# Altium footprint library Seeed-OPL-Connector.PCBLIB: 183 footprints (part 7 of 12)
Each footprint in its own frame and in the unit in brackets; x right, y up, seen from the top. Pads: shape width x height; smd on the part's side, far side on the other; paste and mask are expansions set on the pad; w line width, h text height; cw(c..) or ccw(c..) is an arc to the next point about the centre after c.
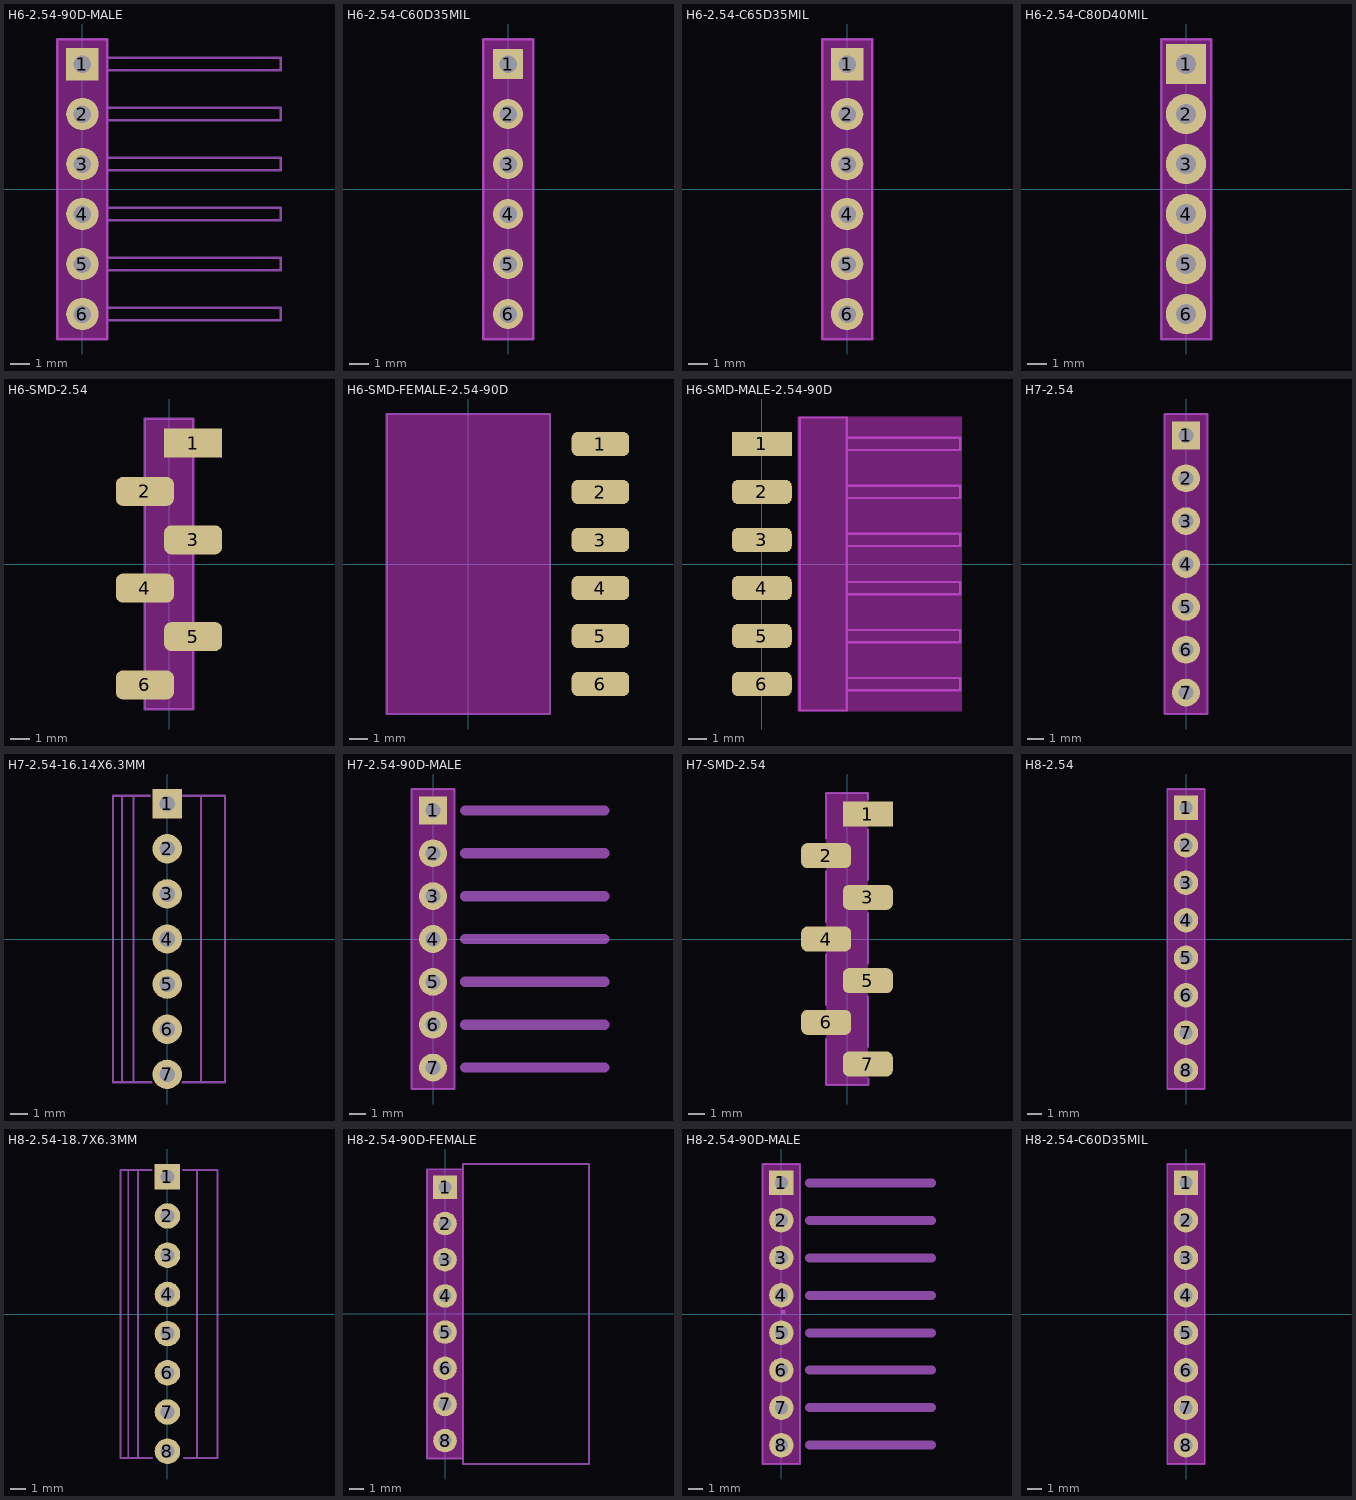
[diagram p6: the footprints below, top view; thin cyan lines are the x and y axes]

## H6-2.54-90D-MALE [mil]
pads (6):
  rect 65x65 hole 35: 1(0,250)
  round 65 hole 35: 2(0,150) 3(0,50) 4(0,-50) 5(0,-150) 6(0,-250)
Keep-Out Layer:
  rectangle: -50,-300 50,300
  lines w0: -50,-300 50,-300 50,300 -50,300 -50,-300
Mechanical 2:
  lines w5: -50,-300 50,-300 50,300 -50,300 -50,-300
Mechanical 16:
  lines w5: 50,-262.6 50,-237.4 396.06,-237.4 396.06,-262.6 50,-262.6 ; 50,-162.6 50,-137.4 396.06,-137.4 396.06,-162.6 50,-162.6 ; 50,-62.6 50,-37.4 396.06,-37.4 396.06,-62.6 50,-62.6 ; 50,37.4 50,62.6 396.06,62.6 396.06,37.4 50,37.4 ; 50,137.4 50,162.6 396.06,162.6 396.06,137.4 50,137.4 ; 50,237.4 50,262.6 396.06,262.6 396.06,237.4 50,237.4

## H6-2.54-C60D35MIL [mil]
pads (6):
  rect 60x60 hole 35: 1(0,250)
  round 60 hole 35: 2(0,150) 3(0,50) 4(0,-50) 5(0,-150) 6(0,-250)
Keep-Out Layer:
  rectangle: -50,-300 50,300
  lines w0: -50,-300 50,-300 50,300 -50,300 -50,-300
Mechanical 2:
  lines w5: -50,-300 50,-300 50,300 -50,300 -50,-300

## H6-2.54-C65D35MIL [mil]
pads (6):
  rect 65x65 hole 35: 1(0,250)
  round 65 hole 35: 2(0,150) 3(0,50) 4(0,-50) 5(0,-150) 6(0,-250)
Keep-Out Layer:
  rectangle: -50,-300 50,300
  lines w0: -50,-300 50,-300 50,300 -50,300 -50,-300
Mechanical 2:
  lines w5: -50,-300 50,-300 50,300 -50,300 -50,-300

## H6-2.54-C80D40MIL [mil]
pads (6):
  rect 80x80 hole 40: 1(0,250)
  round 80 hole 40: 2(0,150) 3(0,50) 4(0,-50) 5(0,-150) 6(0,-250)
Keep-Out Layer:
  rectangle: -50,-300 50,300
Mechanical 2:
  lines w5: -50,-300 50,-300 50,300 -50,300 -50,-300

## H6-SMD-2.54 [mil]
pads (6):
  rect 120x60 smd: 1(50,250)
  rrect50% 120x60 smd: 2(-50,150) 3(50,50) 4(-50,-50) 5(50,-150) 6(-50,-250)
Keep-Out Layer:
  rectangle: -50,-300 50,300
Mechanical 2:
  lines w5: -50,-287.4 -50,-300 50,-300 50,-185.04 ; -50,-212.6 -50,-90.55 ; -50,-15.75 -50,110.24 ; -50,188.98 -50,300 50,300 50,287.4 ; 50,-110.24 50,15.75 ; 50,90.55 50,212.6
Mechanical 18:
  lines w5: -50,-300 -50,300 ; 50,-300 50,300

## H6-SMD-FEMALE-2.54-90D [mil]
pads (6):
  rrect50% 120x50 smd: 1(275,250) 2(275,150) 3(275,50) 4(275,-50) 5(275,-150) 6(275,-250)
Keep-Out Layer:
  rectangle: -169.29,-311.02 169.29,311.02
Mechanical 2:
  lines w5: -170,-312.5 170,-312.5 170,312.5 -170,312.5 -170,-312.5

## H6-SMD-MALE-2.54-90D [mil]
pads (6):
  rect 124.8x50 smd: 1(0,250)
  rrect50% 124.8x50 smd: 2(0,150) 3(0,50) 4(0,-50) 5(0,-150) 6(0,-250)
Keep-Out Layer:
  rectangle: 74.8,-307.09 417.32,307.09
Mechanical 2:
  lines w5: 177.17,-162.6 413.39,-162.6 413.39,-137.4 177.17,-137.4 ; 177.17,-62.6 413.39,-62.6 413.39,-37.4 177.17,-37.4 ; 177.17,37.4 413.39,37.4 413.39,62.6 177.17,62.6 ; 177.17,137.4 413.39,137.4 413.39,162.6 177.17,162.6 ; 177.17,237.4 413.39,237.4 413.39,262.6 177.17,262.6 ; 177.17,-262.6 177.17,-237.4 ; 177.17,-262.6 177.17,-305.12 78.74,-305.12 78.74,305.12 177.17,305.12 177.17,-237.4 ; 177.17,-262.6 413.39,-262.6 413.39,-237.4 177.17,-237.4

## H7-2.54 [mil]
pads (7):
  rect 65x65 hole 35: 1(0,300)
  round 65 hole 35: 2(0,200) 3(0,100) 4(0,0) 5(0,-100) 6(0,-200) 7(0,-300)
Keep-Out Layer:
  rectangle: -50,-350 50,350
Mechanical 2:
  lines w5: -50,-350 50,-350 50,350 -50,350 -50,-350

## H7-2.54-16.14X6.3MM [mil]
pads (7):
  rect 65x65 hole 35: 1(0,300)
  round 65 hole 35: 2(0,200) 3(0,100) 4(0,0) 5(0,-100) 6(0,-200) 7(0,-300)
Mechanical 2:
  lines w5: -74.8,-317.72 -35.43,-317.72 ; -38.19,317.72 -75,317.72 ; 34.25,-317.72 73.62,-317.72 ; 35.43,317.72 74.8,317.72 ; -100,-317.72 -120.08,-317.72 -120.08,317.72 -100,317.72 ; -100,-317.72 -75,-317.72 -75,317.72 ; -100,-317.72 -100,317.72 ; -100,317.72 -77.56,317.72 -75,317.72 ; 75,-317.72 127.95,-317.72 127.95,317.72 75,317.72 75,-317.72

## H7-2.54-90D-MALE [mil]
pads (7):
  rect 65x65 hole 35: 1(0,300)
  round 65 hole 35: 2(0,200) 3(0,100) 4(0,0) 5(0,-100) 6(0,-200) 7(0,-300)
Keep-Out Layer:
  rectangle: -50,-350 50,350
Mechanical 2:
  region: 0,0 10,0 10,10 0,10
  region: 0,0 10,0 10,10 0,10
  region: 0,0 10,0 10,10 0,10
  region: 0,0 10,0 10,10 0,10
  region: 0,0 10,0 10,10 0,10
  region: 0,0 10,0 10,10 0,10
  region: 0,0 10,0 10,10 0,10
  lines w5: -50,-350 50,-350 50,350 -50,350 -50,-350
  lines w24: 75,-300 400,-300 ; 75,-200 400,-200 ; 75,-100 400,-100 ; 75,0 400,0 ; 75,100 400,100 ; 75,200 400,200 ; 75,300 400,300

## H7-SMD-2.54 [mil]
pads (7):
  rect 120x60 smd: 1(50,300)
  rrect50% 120x60 smd: 2(-50,200) 3(50,100) 4(-50,0) 5(50,-100) 6(-50,-200) 7(50,-300)
Keep-Out Layer:
  rectangle: -50,-350 50,350
Mechanical 2:
  lines w5: -50,-350.39 50,-350.39 ; -50,-350 -50,-240.16 ; -50,-158.66 -50,-37.8 ; -50,41.34 -50,162.2 ; -50,241.34 -50,350.39 ; -50,350 50,350 50,334.65 ; 50,-350 51.18,-350 51.18,-334.65 ; 50,-258.66 50,-137.8 ; 50,-58.66 50,62.2 ; 50,141.34 50,262.2

## H8-2.54 [mil]
pads (8):
  rect 65x65 hole 35: 1(0,350)
  round 65 hole 35: 2(0,250) 3(0,150) 4(0,50) 5(0,-50) 6(0,-150) 7(0,-250) 8(0,-350)
Keep-Out Layer:
  rectangle: -50,-400 50,400
Mechanical 2:
  lines w5: -50,-400 50,-400 50,400 -50,400 -50,-400

## H8-2.54-18.7X6.3MM [mil]
pads (8):
  rect 65x65 hole 35: 1(0,350)
  round 65 hole 35: 2(0,250) 3(0,150) 4(0,50) 5(0,-50) 6(0,-150) 7(0,-250) 8(0,-350)
Mechanical 2:
  lines w5: -74.8,-367.72 -39.37,-367.72 ; -40.55,367.72 -75,367.72 ; 39.37,367.72 75,367.72 ; 42.13,-367.72 75,-367.72 ; -100,-367.72 -120.08,-367.72 -120.08,367.72 -100,367.72 ; -100,-367.72 -75,-367.72 -75,367.72 ; -100,-367.72 -100,367.72 ; -100,367.72 -75,367.72 ; 75,-367.72 127.95,-367.72 127.95,367.72 75,367.72 ; 75,-367.72 75,367.72

## H8-2.54-90D-FEMALE [mil]
pads (8):
  rect 65x65 hole 35: 1(0,350)
  round 65 hole 35: 2(0,250) 3(0,150) 4(0,50) 5(0,-50) 6(0,-150) 7(0,-250) 8(0,-350)
Keep-Out Layer:
  rectangle: -50,-400 50,400
Mechanical 2:
  lines w5: -50,-400 50,-400 50,400 -50,400 -50,-400
Mechanical 16:
  lines w5: 49.92,-0.08 49.92,-414.84 398.35,-414.84 398.35,-0.08 ; 50,0 50,414.76 398.43,414.76 398.43,0

## H8-2.54-90D-MALE [mil]
pads (8):
  rect 65x65 hole 35: 1(0,350)
  round 65 hole 35: 2(0,250) 3(0,150) 4(0,50) 5(0,-50) 6(0,-150) 7(0,-250) 8(0,-350)
Keep-Out Layer:
  rectangle: -50,-400 50,400
Mechanical 2:
  region: 0,0 10,0 10,10 0,10
  region: 0,0 10,0 10,10 0,10
  region: 0,0 10,0 10,10 0,10
  region: 0,0 10,0 10,10 0,10
  region: 0,0 10,0 10,10 0,10
  region: 0,0 10,0 10,10 0,10
  region: 0,0 10,0 10,10 0,10
  region: 0,0 10,0 10,10 0,10
  lines w5: -50,-400 50,-400 50,400 -50,400 -50,-400
  lines w24: 75,-350 400,-350 ; 75,-250 400,-250 ; 75,-150 400,-150 ; 75,-50 400,-50 ; 75,50 400,50 ; 75,150 400,150 ; 75,250 400,250 ; 75,350 400,350

## H8-2.54-C60D35MIL [mil]
pads (8):
  rect 65x65 hole 35: 1(0,350)
  round 65 hole 35: 2(0,250) 3(0,150) 4(0,50) 5(0,-50) 6(0,-150) 7(0,-250) 8(0,-350)
Keep-Out Layer:
  rectangle: -50,-400 50,400
Mechanical 2:
  lines w5: -50,-400 50,-400 50,400 -50,400 -50,-400